# Altium footprint library tcpcontrol.PcbLib: 62 footprints (part 1 of 4)
Each footprint in its own frame and in the unit in brackets; x right, y up, seen from the top. Pads: shape width x height; smd on the part's side, far side on the other; paste and mask are expansions set on the pad; w line width, h text height; cw(c..) or ccw(c..) is an arc to the next point about the centre after c.
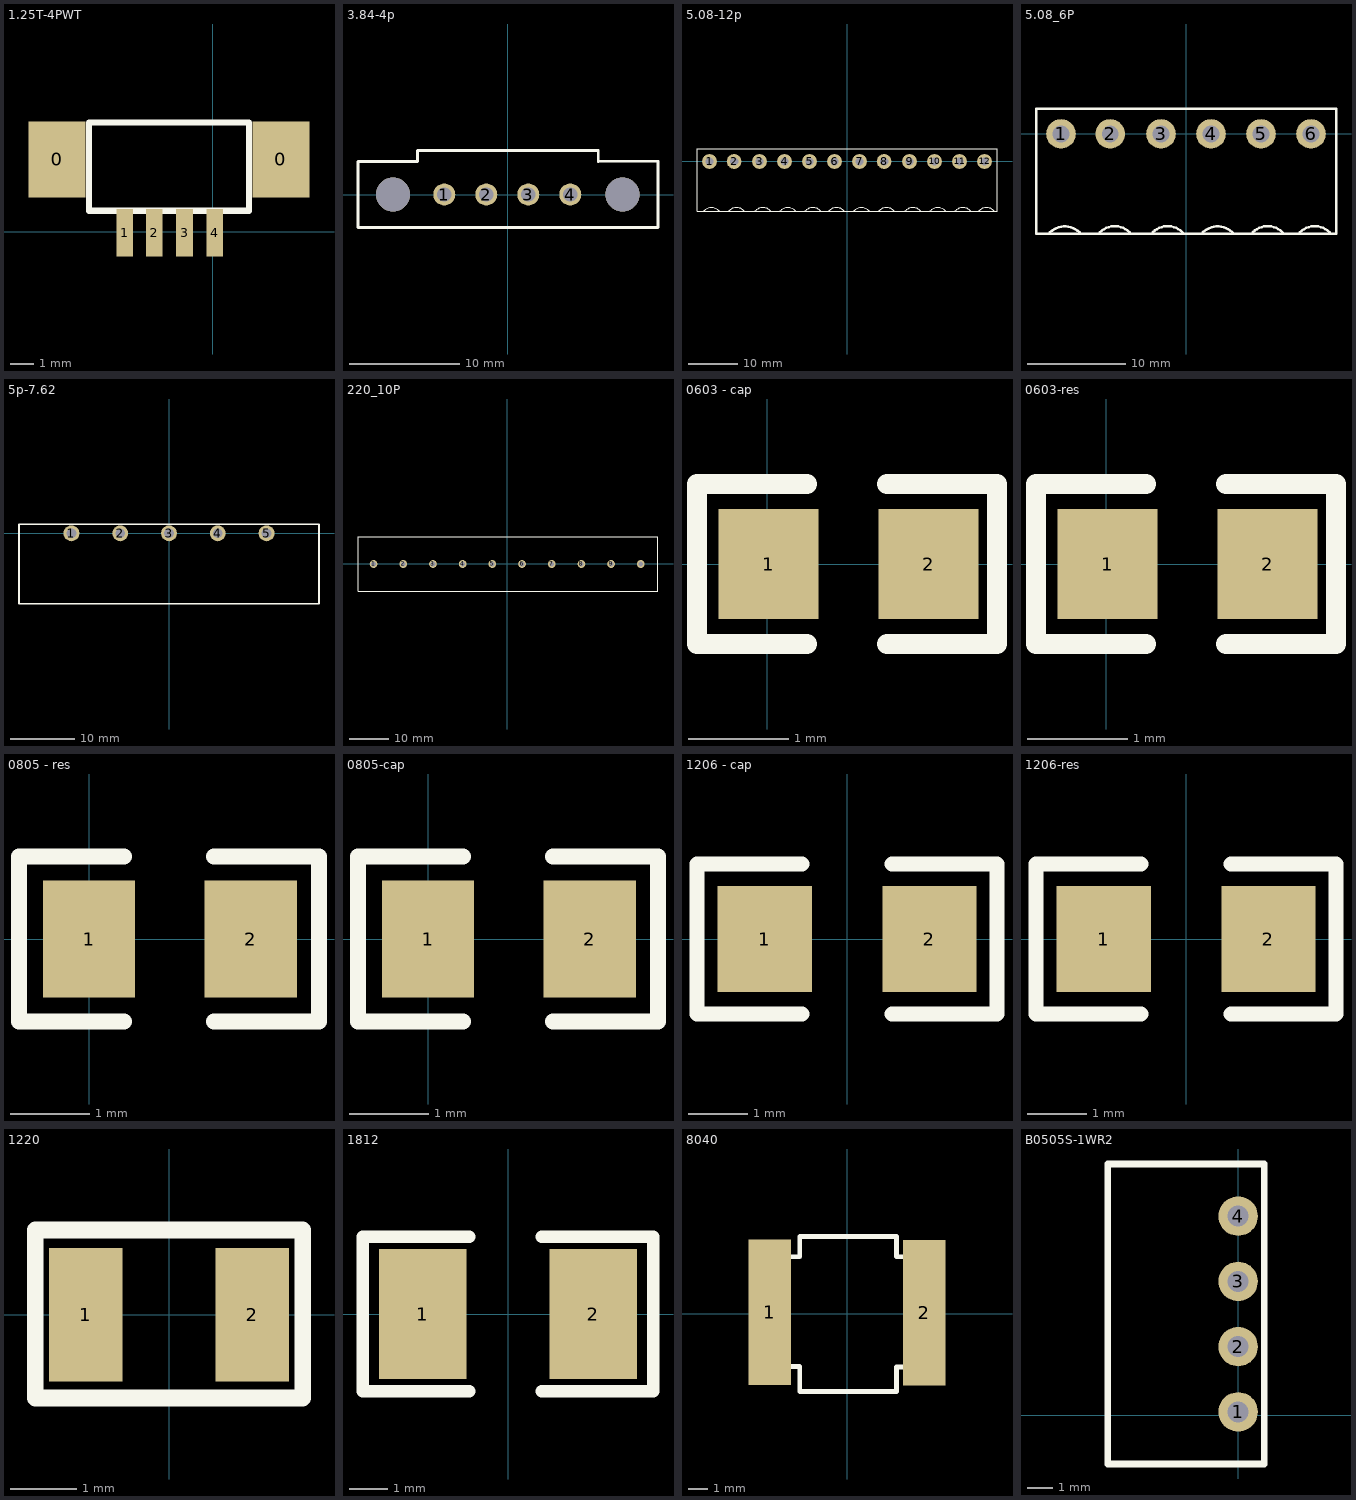
[diagram p0: the footprints below, top view; thin cyan lines are the x and y axes]

## 1.25T-4PWT [mm]
pads (6):
  rect 2.4x3.2 smd: 0(-6.553,3.051) 0(2.857,3.053)
  rect 0.7x2 smd: 1(-3.711,-0.038) 2(-2.461,-0.038) 3(-1.194,-0.041) 4(0.079,-0.041)
Top Overlay:
  lines w0.254: -5.22,0.892 -5.22,4.592 ; -5.209,4.593 1.5,4.593 ; -5.19,0.892 1.5,0.892 ; 1.52,0.892 1.52,4.592

## 3.84-4p [mm]
pads (6):
  round 2 hole 1.3: 1(-5.759,0) 2(-1.949,0) 3(1.861,0) 4(5.671,0)
  round 3.1 hole 3.1 unplated: ""(-10.41,0) ""(10.41,0)
Top Overlay:
  lines w0.254: -8.209,-3 -13.589,-3 -13.589,3 -8.189,3 -8.189,4 ; -8.19,-3 8.311,-3 ; -8.19,4 8.211,4 8.211,3.002 ; 8.221,-3 13.601,-3 ; 8.228,3.023 13.628,3.023 13.628,-2.977

## 5.08-12p [mm]
pads (12):
  round 3 hole 1.7: 1(-27.94,0) 2(-22.941,0) 3(-17.78,0) 4(-12.7,0) 5(-7.62,0) 6(-2.54,0) 7(2.54,0) 8(7.539,0) 9(12.7,0) 10(17.78,0) 11(22.86,0) 12(27.94,0)
Top Overlay:
  lines w0.254: -29.21,-10.16 cw(c-27.559,-11.567) -25.908,-10.16 ; -24.13,-10.16 cw(c-22.479,-11.495) -20.828,-10.16 ; -18.755,-10.16 cw(c-17.104,-11.495) -15.453,-10.16 ; -13.675,-10.16 cw(c-12.024,-11.567) -10.373,-10.16 ; -8.595,-10.16 cw(c-6.944,-11.495) -5.293,-10.16 ; -3.81,-10.16 cw(c-2.159,-11.495) -0.508,-10.16 ; 1.27,-10.16 cw(c2.921,-11.567) 4.572,-10.16 ; 6.35,-10.16 cw(c8.001,-11.495) 9.652,-10.16 ; 11.725,-10.16 cw(c13.376,-11.495) 15.027,-10.16 ; 16.805,-10.16 cw(c18.456,-11.567) 20.107,-10.16 ; 21.885,-10.16 cw(c23.536,-11.495) 25.187,-10.16 ; 26.67,-10.16 cw(c28.321,-11.495) 29.972,-10.16 ; -30.48,-10.16 -30.48,2.54 -5.08,2.54 0,2.54 25.4,2.54 30.48,2.54 30.48,-10.16 25.4,-10.16 0,-10.16 -5.08,-10.16 -30.48,-10.16

## 5.08_6P [mm]
pads (6):
  round 3 hole 1.7: 1(-12.7,0) 2(-7.701,0) 3(-2.54,0) 4(2.54,0) 5(7.62,0) 6(12.7,0)
Top Overlay:
  lines w0.254: -13.97,-10.16 cw(c-12.319,-11.567) -10.668,-10.16 ; -8.89,-10.16 cw(c-7.239,-11.495) -5.588,-10.16 ; -3.515,-10.16 cw(c-1.864,-11.495) -0.213,-10.16 ; 1.565,-10.16 cw(c3.216,-11.567) 4.867,-10.16 ; 6.645,-10.16 cw(c8.296,-11.495) 9.947,-10.16 ; 11.43,-10.16 cw(c13.081,-11.495) 14.732,-10.16 ; -15.24,-10.16 -15.24,2.54 10.16,2.54 15.24,2.54 15.24,-10.16 10.16,-10.16 -15.24,-10.16

## 5p-7.62 [mm]
pads (5):
  round 2.5 hole 1.5: 1(-15.24,0) 2(-7.62,0) 3(0,0) 4(7.62,0) 5(15.24,0)
Top Overlay:
  lines w0.254: 0,1.4 -23.44,1.4 ; 16.64,1.4 23.44,1.4 23.44,-8.2 23.44,-11 -23.44,-11 -23.44,1.4 ; 21,1.4 -23.44,1.4

## 220_10P [mm]
pads (10):
  round 2 hole 1.2: 1(-34.29,0) 2(-26.67,0) 3(-19.05,0) 4(-11.43,0) 5(-3.81,0) 6(3.81,0) 7(11.43,0) 8(19.05,0) 9(26.67,0) 10(34.29,0)
Top Overlay:
  lines w0.254: -38.29,-7 26.71,-7 38.71,-7 38.71,7 26.71,7 -38.29,7 -38.29,-7

## 0603 - cap [mm]
height 10.058
pads (2):
  rect 1x1.1 smd: 1(0.015,0) 2(1.615,0)
Top Overlay:
  lines w0.2: 0.4,-0.8 -0.7,-0.8 -0.7,-0.2 -0.7,0.8 0.4,0.8 ; 1.2,-0.8 2.3,-0.8 2.3,0.8 1.2,0.8
3D body "CAPC1608X08L.step": height 0.8, standoff 0, extent -0.023,-0.4 1.577,0.4

## 0603-res [mm]
height 10.058
pads (2):
  rect 1x1.1 smd: 1(0.015,0) 2(1.615,0)
Top Overlay:
  lines w0.2: 0.4,-0.8 -0.7,-0.8 -0.7,-0.2 -0.7,0.8 0.4,0.8 ; 1.2,-0.8 2.3,-0.8 2.3,0.8 1.2,0.8
3D body "RESC1608X05L.step": height 0.45, standoff 0, extent -0.023,-0.4 1.577,0.4

## 0805 - res [mm]
height 1.1
pads (2):
  rect 1.16x1.47 smd: 1(0,0) 2(2.032,0)
Top Overlay:
  lines w0.2: 0.439,-1.035 -0.881,-1.035 -0.881,1.035 0.439,1.035 ; 1.571,-1.035 2.891,-1.035 2.891,1.035 1.571,1.035
3D body "RESC2012X06L.step": height 0.6, standoff 0, extent -0.086,-0.625 1.914,0.625

## 0805-cap [mm]
height 1.1
pads (2):
  rect 1.16x1.47 smd: 1(0,0) 2(2.032,0)
Top Overlay:
  lines w0.2: 0.439,-1.035 -0.881,-1.035 -0.881,1.035 0.439,1.035 ; 1.571,-1.035 2.891,-1.035 2.891,1.035 1.571,1.035
3D body "CAPC2012X10L.step": height 1, standoff 0, extent -0.086,-0.625 1.914,0.625

## 1206 - cap [mil]
height 43.31
pads (2):
  rect 63x70.9 smd: 1(-55,0) 2(55,0)
Top Overlay:
  lines w10: -30,-50 -100,-50 -100,50 -30,50 ; 30,-50 100,-50 100,50 30,50
3D body "CAPMP3216X180N.STEP": height 70.87, standoff 0, extent -67.99,-31.49 58,31.5

## 1206-res [mil]
height 43.31
pads (2):
  rect 63x70.9 smd: 1(-55,0) 2(55,0)
Top Overlay:
  lines w10: -30,-50 -100,-50 -100,50 -30,50 ; 30,-50 100,-50 100,50 30,50

## 1220 [mm]
pads (2):
  rect 1.1x2 smd: 1(-1.251,0) 2(1.251,0)
Top Overlay:
  lines w0.254: -2.007,-1.245 -2.007,1.27 2.006,1.27 2.006,-1.245 -2.007,-1.245
3D body "User Library-CD32-3_5x2_1.STEP": height 2.1, standoff 0, extent -1.705,-1.5 1.744,1.5

## 1812 [mil]
height 43.31
pads (2):
  rect 90x133.86 smd: 1(-88,0) 2(88,0)
Top Overlay:
  lines w13: -40,-80 -150,-80 -150,80 -40,80 ; 35,-80 150,-80 150,80 35,80

## 8040 [mm]
height 1.1
pads (2):
  rect 2.2x7.5 smd: 1(-4,0.076) 2(4,0.051)
Top Overlay:
  lines w0.254: -3.942,-2.718 -2.442,-2.718 -2.442,-4.013 2.558,-4.013 2.558,-2.743 4.058,-2.743 4.058,2.946 2.558,2.946 2.558,3.988 -2.442,3.988 -2.442,2.946 -3.937,2.946 -3.942,-2.718

## B0505S-1WR2 [mil]
pads (4):
  round 60.5 hole 32: 1(0,5) 2(0,105) 3(0,205) 4(0,305)
Top Overlay:
  lines w10: -200,-75 40,-75 40,385 -200,385 -200,-75